# EAGLE library part HB-GDT-25X12 (library AL-GDT)
GDT 25x12
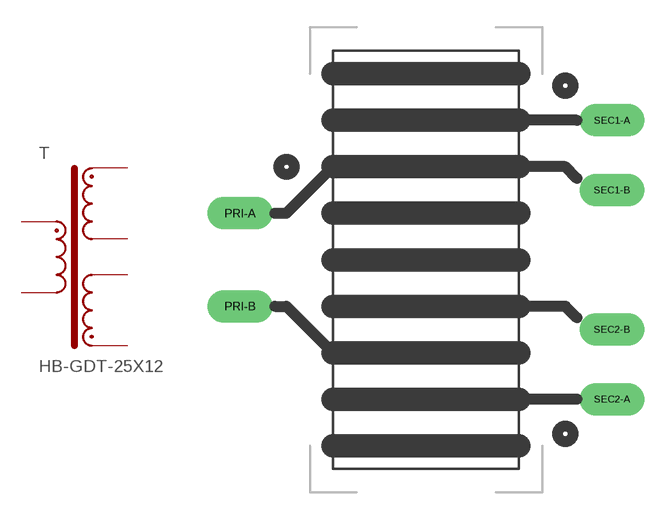
[diagram p0: symbol with the pads of HB-GDT-25X12; footprint HB-GDT-25X12]

Designator prefix T

## HB-GDT-25X12  [HB-GDT-25X12]
PRI-A  PRI-A  pas
PRI-B  PPRI-B  pas
SEC1-A  SEC1-A  pas
SEC1-B  SEC1-B  pas
SEC2-A  SEC2-A  pas
SEC2-B  SEC2-B  pas

## Footprint HB-GDT-25X12 (pad centres in mm)
GDT 25x12
drill 1 pad 1.778 long: PRI-A -5.08,2.54; PRI-B -5.08,-2.54; SEC1-A 15.24,7.62; SEC1-B 15.24,3.81; SEC2-A 15.24,-7.62; SEC2-B 15.24,-3.81